# Altium footprint library WLP-42(3.0X2.8).PcbLib: 1 footprints
Each footprint in its own frame and in the unit in brackets; x right, y up, seen from the top. Pads: shape width x height; smd on the part's side, far side on the other; paste and mask are expansions set on the pad; w line width, h text height; cw(c..) or ccw(c..) is an arc to the next point about the centre after c.
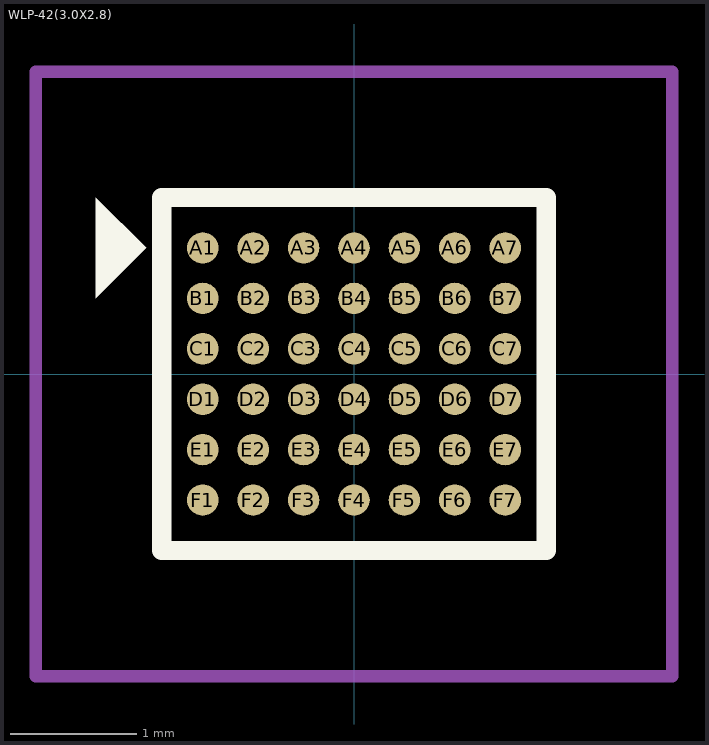
[diagram p0: the footprint, top view; thin cyan lines are the x and y axes]

## WLP-42(3.0X2.8) [mm]
pads (42):
  round 0.25 smd paste-0.125 mask+0.04: A1(-1.2,1) A2(-0.8,1) A3(-0.4,1) A4(0,1) A5(0.4,1) A6(0.8,1) A7(1.2,1) B1(-1.2,0.6) B2(-0.8,0.6) B3(-0.4,0.6) B4(0,0.6) B5(0.4,0.6) B6(0.8,0.6) B7(1.2,0.6) C1(-1.2,0.2) C2(-0.8,0.2) C3(-0.4,0.2) C4(0,0.2) C5(0.4,0.2) C6(0.8,0.2) C7(1.2,0.2) D1(-1.2,-0.2) D2(-0.8,-0.2) D3(-0.4,-0.2) D4(0,-0.2) D5(0.4,-0.2) D6(0.8,-0.2) D7(1.2,-0.2) E1(-1.2,-0.6) E2(-0.8,-0.6) E3(-0.4,-0.6) E4(0,-0.6) E5(0.4,-0.6) E6(0.8,-0.6) E7(1.2,-0.6) F1(-1.2,-1) F2(-0.8,-1) F3(-0.4,-1) F4(0,-1) F5(0.4,-1) F6(0.8,-1) F7(1.2,-1)
Top Overlay:
  region: -2.05,0.6 -2.05,1.4 -1.65,1
  lines w0.152: -1.525,-1.4 1.525,-1.4 1.525,1.4 -1.525,1.4 -1.525,-1.4
Top Courtyard:
  lines w0.1: -2.525,-2.4 -1.525,-2.4 2.525,-2.4 2.525,2.4 -2.525,2.4 -2.525,-2.4
3D body "21-100632_W422C3+1_ADI.step": height 0.69, standoff 0, extent -1.511,-1.397 1.511,1.397